# EAGLE library part 2X20/90_1MM27_HARWIN_M50-3202045_SOCKET (library df4iah_connector)
Socket 20X2 1.27mm M50-3202045 Archer, 90°
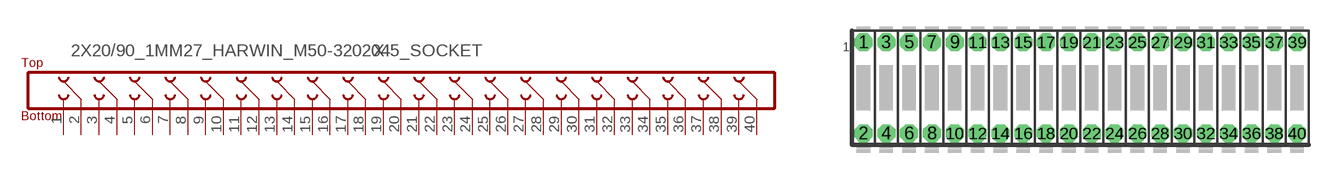
[diagram p18: symbol with the pads of 2X20/90_1MM27_HARWIN_M50-3202045_SOCKET; footprint 2X20/90_1MM27_HARWIN_M50-3202045_SOCKET]

Designator prefix X

## 2X20/90_1MM27_HARWIN_M50-3202045_SOCKET  [2X20/90_1MM27_HARWIN_M50-3202045_SOCKET]
1  1  pas
2  2  pas
3  3  pas
4  4  pas
5  5  pas
6  6  pas
7  7  pas
8  8  pas
9  9  pas
10  10  pas
11  11  pas
12  12  pas
13  13  pas
14  14  pas
15  15  pas
16  16  pas
17  17  pas
18  18  pas
19  19  pas
20  20  pas
21  21  pas
22  22  pas
23  23  pas
24  24  pas
25  25  pas
26  26  pas
27  27  pas
28  28  pas
29  29  pas
30  30  pas
31  31  pas
32  32  pas
33  33  pas
34  34  pas
35  35  pas
36  36  pas
37  37  pas
38  38  pas
39  39  pas
40  40  pas

## Footprint 2X20/90_1MM27_HARWIN_M50-3202045_SOCKET (pad centres in mm)
Header 20X2 1.27mm M50-3202045 Archer, 90°
drill 0.5 pad 0.762 octagon: 1 -12.7,0; 2 -12.7,-5.08; 3 -11.43,0; 4 -11.43,-5.08; 5 -10.16,0; 6 -10.16,-5.08; 7 -8.89,0; 8 -8.89,-5.08; 9 -7.62,0; 10 -7.62,-5.08; 11 -6.35,0; 12 -6.35,-5.08; 13 -5.08,0; 14 -5.08,-5.08; 15 -3.81,0; 16 -3.81,-5.08; 17 -2.54,0; 18 -2.54,-5.08; 19 -1.27,0; 20 -1.27,-5.08; 21 0,0; 22 0,-5.08; 23 1.27,0; 24 1.27,-5.08; 25 2.54,0; 26 2.54,-5.08; 27 3.81,0; 28 3.81,-5.08; 29 5.08,0; 30 5.08,-5.08; 31 6.35,0; 32 6.35,-5.08; 33 7.62,0; 34 7.62,-5.08; 35 8.89,0; 36 8.89,-5.08; 37 10.16,0; 38 10.16,-5.08; 39 11.43,0; 40 11.43,-5.08